# Altium schematic symbol library 3225晶振.SchLib: 1 symbol
Pins are listed as number, name and electrical type; pins without a type are passive.

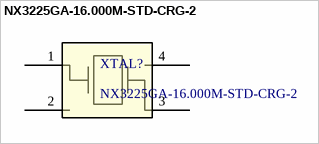
[diagram p0: symbol NX3225GA-16.000M-STD-CRG-2]

## NX3225GA-16.000M-STD-CRG-2
designator XTAL?
No Description Available; Mfr_Name: NDK; Copyright: Copyright (C) 2022 Ultra Librarian. All rights reserved.; Manufacturer_Part_Number: NX3225GA-16.000M-STD-CRG-2; RefDes: RefDes; Type: DEV
footprint NX3225GA-16.000M-STD-CRG-2_NDK
pins: 1, 2, 3, 4